# Altium footprint library LCD2004.PcbLib: 1 footprints
Each footprint in its own frame and in the unit in brackets; x right, y up, seen from the top. Pads: shape width x height; smd on the part's side, far side on the other; paste and mask are expansions set on the pad; w line width, h text height; cw(c..) or ccw(c..) is an arc to the next point about the centre after c.
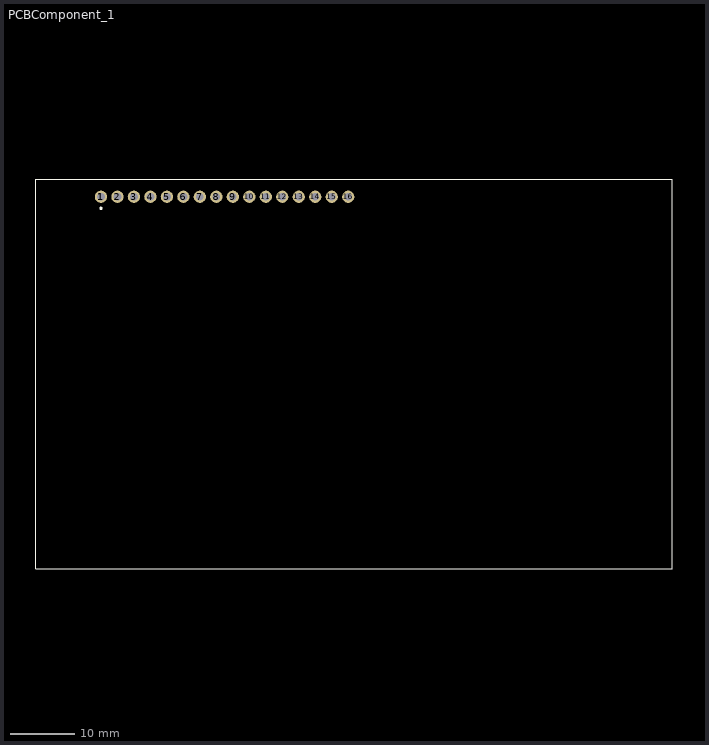
[diagram p0: the footprint, top view; thin cyan lines are the x and y axes]

## PCBComponent_1 [mm]
pads (17):
  round 1.9 hole 1.2 mask+0.076: 1(134.493,238.506) 1(134.493,238.506) 2(137.033,238.506) 3(139.573,238.506) 4(142.113,238.506) 5(144.653,238.506) 6(147.193,238.506) 7(149.733,238.506) 8(152.273,238.506) 9(154.813,238.506) 10(157.353,238.506) 11(159.893,238.506) 12(162.433,238.506) 13(164.973,238.506) 14(167.513,238.506) 15(170.053,238.506) 16(172.593,238.506)
Top Overlay:
  circle w0.254: c134.493,236.728 r0.127
  lines w0.005: 124.46,181.229 124.46,241.173 222.504,241.173 222.504,181.229 124.46,181.229
3D body "User Library-LCD2004.sldprt": height 11.05, standoff -1, extent 124.587,181.074 222.587,241.074